# Altium schematic symbol library R电阻.SchLib: 2 symbols
Pins are listed as number, name and electrical type; pins without a type are passive.

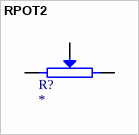
[diagram p0: symbol RPOT2]

## RPOT2
designator R?
Potentiometer
footprint VR5
footprint RVR-2
footprint RVR-3
footprint RVR-1
pins: 1, 2 VT, 3 2

## VARISTOR
designator ?